# EAGLE library part MAX3185?* (library LoganSmith-Analog_IC)
Cold-Junction Compensated, 1-Wire Thermocouple-to-Digital Converters Datasheet <http://datasheets.maximintegrated.com/en/ds/MAX31850-MAX31851.pdf>
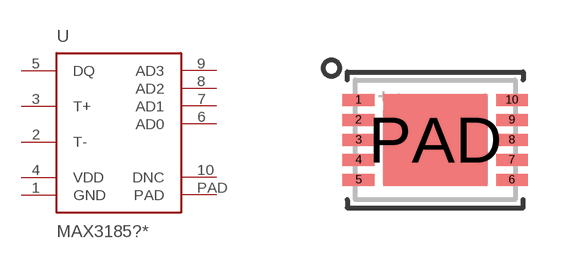
[diagram p1: symbol with the pads of 10-TDFN-EP; footprint 10-TDFN-EP]

Designator prefix U

## MAX31850E (DIGIKEY_OC: MAX31850EATB+-ND; MFR: Maxim Integrated; MPN: MAX31850EATB+; TEMP_RANGE: -40C to 125C; VALUE: Type E), MAX31850J (DIGIKEY_OC: MAX31850JATB+-ND; MFR: Maxim Integrated; MPN: MAX31850JATB+; TEMP_RANGE: -40C to 125C; VALUE: Type J), MAX31850K (DIGIKEY_OC: MAX31850KATB+-ND; MFR: Maxim Integrated; MPN: MAX31850KATB+; TEMP_RANGE: -40C to 125C; VALUE: Type K), MAX31850N (DIGIKEY_OC: MAX31850NATB+-ND; MFR: Maxim Integrated; MPN: MAX31850NATB+; TEMP_RANGE: -40C to 125C; VALUE: Type N), MAX31850T (DIGIKEY_OC: MAX31850TATB+-ND; MFR: Maxim Integrated; MPN: MAX31850TATB+; TEMP_RANGE: -40C to 125C; VALUE: Type T)  [10-TDFN-EP]
1  GND  sup
2  T-  in
3  T+  in
4  VDD  pwr
5  DQ
6  AD0
7  AD1
8  AD2
9  AD3
10  DNC  nc
PAD  PAD  nc

## MAX31851R (DIGIKEY_OC: MAX31851RATB+-ND; MFR: Maxim Integrated; MPN: MAX31851RATB+; TEMP_RANGE: -40C to 125C; VALUE: Type R), MAX31851S (DIGIKEY_OC: MAX31851SATB+-ND; MFR: Maxim Integrated; MPN: MAX31851SATB+; TEMP_RANGE: -40C to 125C; VALUE: Type S)  [10-TDFN-EP]
Pads as for 10-TDFN-EP

## Footprint 10-TDFN-EP (pad centres in mm)
Plastic Very Very Thin Dual Flatpack, No Leads Based on Maxim land pattern 90-0247: Land Pattern <http://pdfserv.maximintegrated.com/land_patterns/90-0247.PDF> Package Outline <http://pdfserv.maximintegrated.com/package_dwgs/21-0268.PDF>
smd 0.79 x 0.3: 1 -1.92,1; 2 -1.92,0.5; 3 -1.92,0; 4 -1.92,-0.5; 5 -1.92,-1; 6 1.92,-1; 7 1.92,-0.5; 8 1.92,0; 9 1.92,0.5; 10 1.92,1
smd 2.6 x 2.3: PAD 0,0